# Altium footprint library TagConnect_TC2030.PcbLib: 1 footprints
Each footprint in its own frame and in the unit in brackets; x right, y up, seen from the top. Pads: shape width x height; smd on the part's side, far side on the other; paste and mask are expansions set on the pad; w line width, h text height; cw(c..) or ccw(c..) is an arc to the next point about the centre after c.
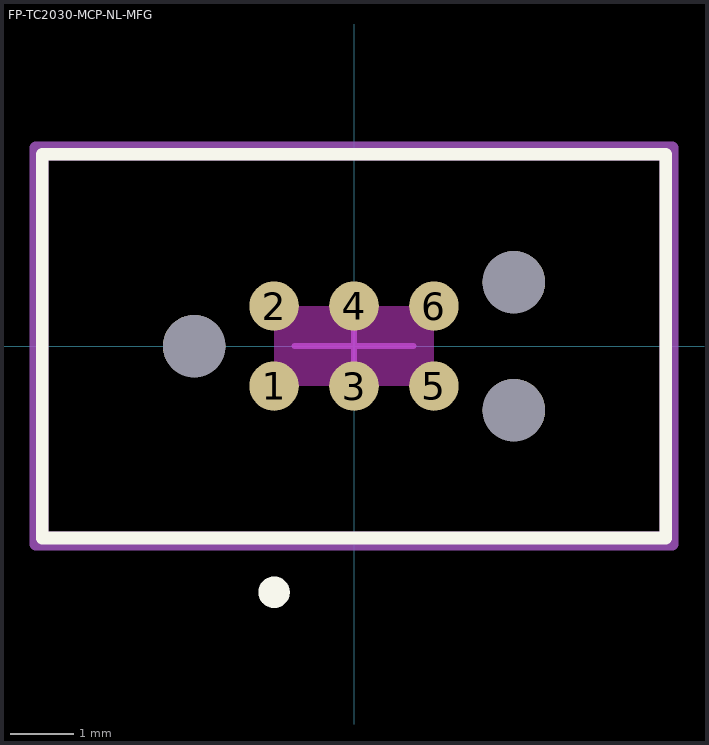
[diagram p0: the footprint, top view; thin cyan lines are the x and y axes]

## FP-TC2030-MCP-NL-MFG [mil]
pads (9):
  round 30.98 smd paste-39370.1 mask+0: 1(-50,-25) 2(-50,25) 3(0,-25) 4(0,25) 5(50,-25) 6(50,25)
  round 39.02 hole 39.02 unplated paste-99999 mask+0: ""(-100,0) ""(100,-40) ""(100,40)
Top Overlay:
  circle w9.84: c-50,-153.94 r4.92
  lines w7.87: -195,-120 -195,120 195,120 195,-120 -195,-120
Keep-Out Layer:
  rectangle: -50,-25 50,25
Top Assembly:
  lines w7.87: -198.94,-123.94 -198.94,123.94 198.94,123.94 198.94,-123.94 -198.94,-123.94
  text ".Designator" at 0,-0.02 h39.37
Top 3D Body:
  lines w7.87: -195,-120 -195,120 195,120 195,-120 -195,-120
Top Courtyard:
  lines w7.87: -198.94,-123.94 -198.94,123.94 198.94,123.94 198.94,-123.94 -198.94,-123.94
Top Component Center:
  lines w3.94: -37.18,0 37.18,0 ; 0,-37.18 0,37.18
3D body "Conn_Tag-Connect_TC2030-MCP-NL_eec.STEP": height 10, standoff 0, extent -198.94,-123.94 198.94,123.94